# Altium schematic symbol library Schlib5.2.0.SchLib: 31 symbols
Pins are listed as number, name and electrical type; pins without a type are passive.

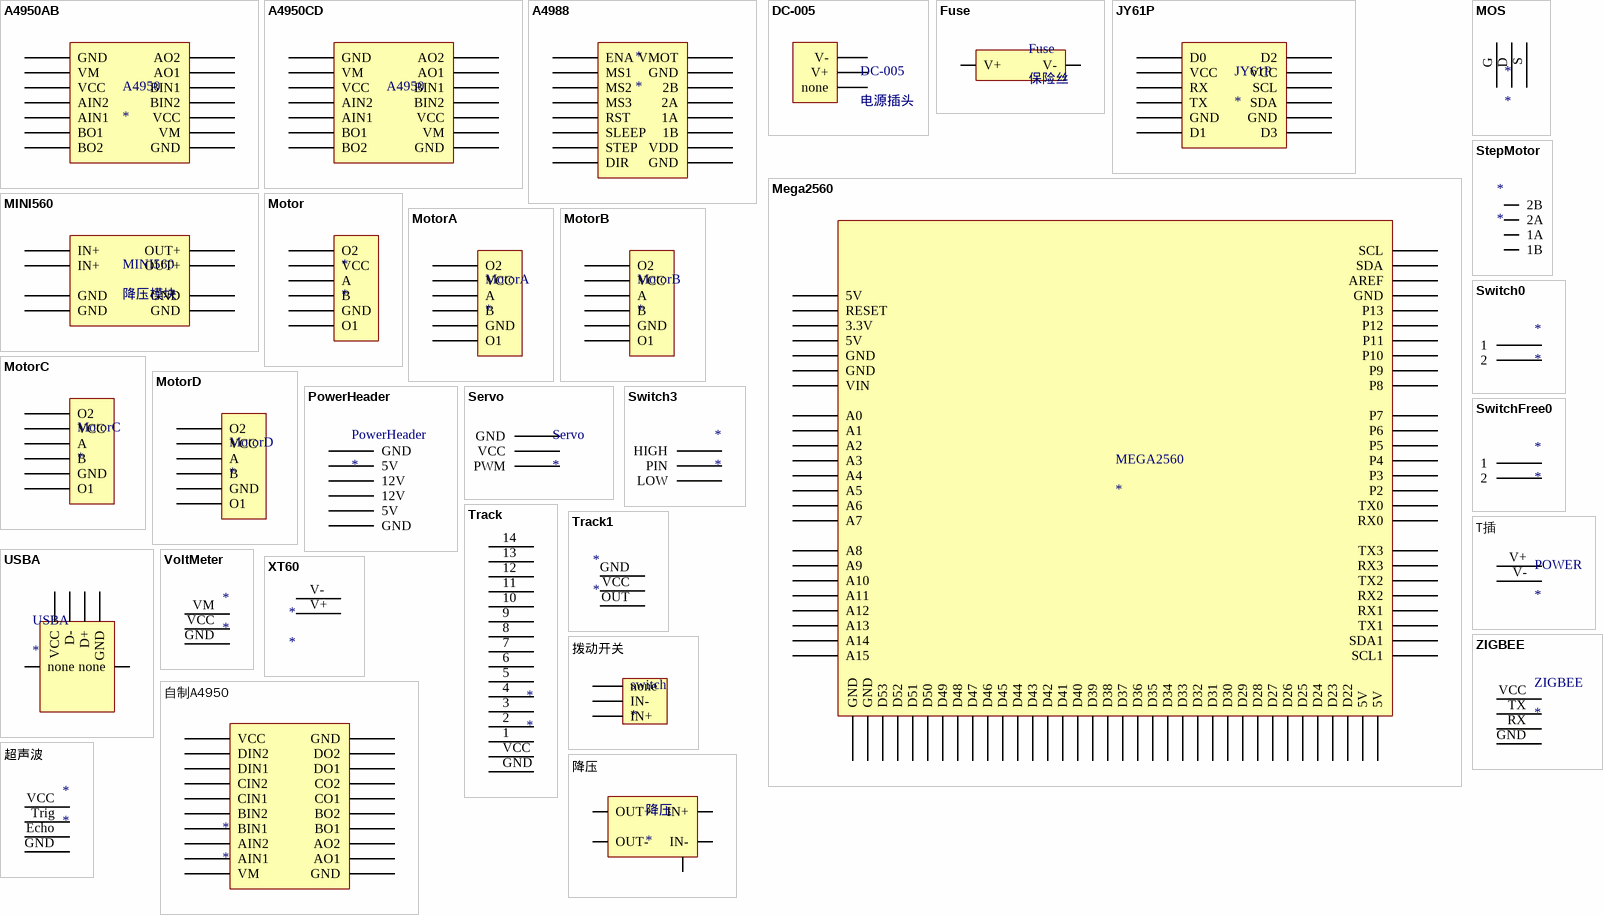
[diagram p0: symbols A4950AB to 降压]

## A4950AB
designator A4950
直流电机驱动板
footprint A4950 (Footprint not found)
pins: AIN1, AIN2, AO1, AO2, BIN1, BIN2, BO1, BO2, GND, GND, VCC, VCC, VM, VM

## A4950CD
designator A4950
直流电机驱动板
footprint A4950
pins: AIN1, AIN2, AO1, AO2, BIN1, BIN2, BO1, BO2, GND, GND, VCC, VCC, VM, VM

## A4988
designator *
footprint A4988
pins: 1A, 1B, 2A, 2B, DIR, ENA, GND, GND, MS1, MS2, MS3, RST, SLEEP, STEP, VDD, VMOT

## DC-005
designator DC-005, comment 电源插头
footprint DC-005
pins: none, V+, V-

## Fuse
designator Fuse, comment 保险丝
footprint FUSE (保险丝)
pins: V+, V-

## JY61P
designator JY61P
footprint JY61P
pins: D0, D1, D2, D3, GND, GND, RX, SCL, SDA, TX, VCC, VCC

## Mega2560
designator MEGA2560
footprint MEGA2560 (单片机)
pins: 3.3V, 5V, 5V, 5V, 5V, A0, A1, A2, A3, A4, A5, A6, A7, A8, A9, A10, A11, A12, A13, A14, A15, AREF, D22, D23, D24, D25, D26, D27, D28, D29, D30, D31, D32, D33, D34, D35, D36, D37, D38, D39, D40, D41, D42, D43, D44, D45, D46, D47, D48, D49, D50, D51, D52, D53, GND, GND, GND, GND, GND, P2, P3, P4, P5, P6, P7, P8, P9, P10, P11, P12, P13, RESET, RX0, RX1, RX2, RX3, SCL, SCL1, SDA, SDA1, TX0, TX1, TX2, TX3, VIN

## MINI560
designator MINI560, comment 降压模块
footprint MINI560 (降压模块)
pins: GND, GND, GND, GND, IN+, IN+, OUT+, OUT+

## MOS
designator *
footprint MOS
pins: D, G, S

## Motor
designator *
footprint Motor
pins: A, B, GND, O1, O2, VCC

## MotorA
designator MotorA
footprint Motor2.0
pins: A, B, GND, O1, O2, VCC

## MotorB
designator MotorB
footprint Motor2.0
pins: A, B, GND, O1, O2, VCC

## MotorC
designator MotorC
footprint Motor2.0
pins: A, B, GND, O1, O2, VCC

## MotorD
designator MotorD
footprint Motor2.0
pins: A, B, GND, O1, O2, VCC

## PowerHeader
designator PowerHeader
footprint PowerHeader
pins: 5V, 5V, 12V, 12V, GND, GND

## Servo
designator Servo
footprint Servo
pins: GND, PWM, VCC

## StepMotor
designator *
footprint StepMotor
pins: 1A, 1B, 2A, 2B

## Switch0
designator *
footprint Switch0
pins: 1, 2

## Switch3
designator *
footprint Switch3
pins: HIGH, LOW, PIN

## SwitchFree0
designator *
footprint SwitchFree
pins: 1, 2

## Track
designator *
footprint Track
pins: 1, 2, 3, 4, 5, 6, 7, 8, 9, 10, 11, 12, 13, 14, GND, VCC

## Track1
designator *
pins: GND, OUT, VCC

## T插
designator POWER
footprint T-POWER (T插)
pins: V+, V-

## USBA
designator USBA
footprint USB-A
pins: D+, D-, GND, none, none, VCC

## VoltMeter
designator *
footprint VoltMeter
pins: GND, VCC, VM

## XT60
designator *
footprint XT60
pins: V+, V-

## ZIGBEE
designator ZIGBEE
footprint ZIGBEE
pins: GND, RX, TX, VCC

## 拨动开关
designator switch
footprint Switch
pins: IN+, IN-, none

## 自制A4950
designator *
footprint 自制A4950
pins: AIN1, AIN2, AO1, AO2, BIN1, BIN2, BO1, BO2, CIN1, CIN2, CO1, CO2, DIN1, DIN2, DO1, DO2, GND, GND, VCC, VM

## 超声波
designator *
footprint 超声波
pins: Echo, GND, Trig, VCC

## 降压
designator 降压
小聂Studio
footprint 降压 (小聂Studio)
pins: IN+, IN-, none, OUT+, OUT-